# Altium footprint library KT-99-1.PcbLib: 1 footprints
Each footprint in its own frame and in the unit in brackets; x right, y up, seen from the top. Pads: shape width x height; smd on the part's side, far side on the other; paste and mask are expansions set on the pad; w line width, h text height; cw(c..) or ccw(c..) is an arc to the next point about the centre after c.
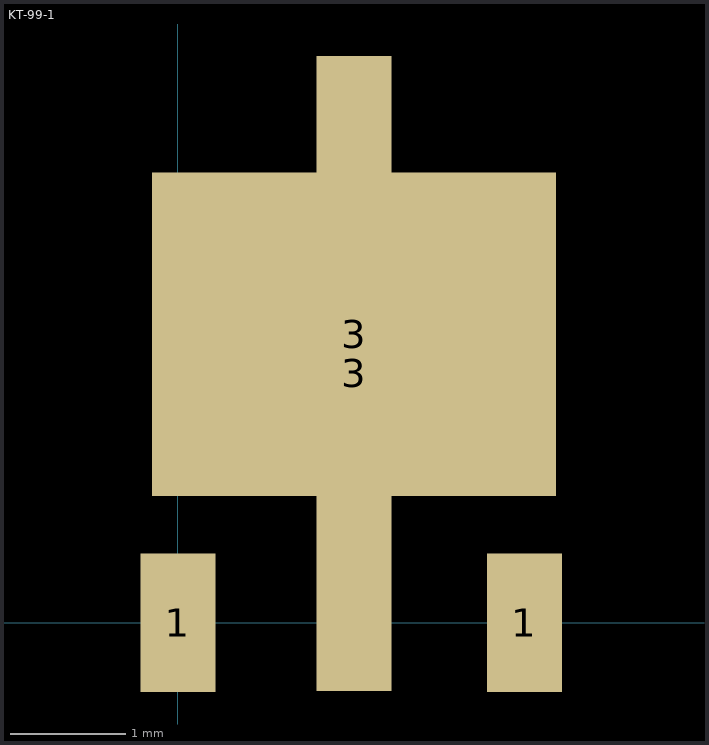
[diagram p0: the footprint, top view; thin cyan lines are the x and y axes]

## KT-99-1 [mm]
height 150
pads (4):
  rect 0.65x1.2 smd: 1(0,0) 1(3,0)
  rect 0.65x5.5 smd: 3(1.524,2.159)
  rect 3.5x2.8 smd: 3(1.524,2.499)
3D body "KT-99-1.STEP": height 1.7, standoff 0, extent -0.78,-0.445 3.82,4.805